# Altium schematic symbol library Other-测试短接.SchLib: 1 symbol
Pins are listed as number, name and electrical type; pins without a type are passive.

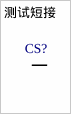
[diagram p0: symbol 测试短接]

## 测试短接
designator CS?  (no BOM)
pins: 1 2, 2